# EAGLE library part S13PIN (library jst_eh)
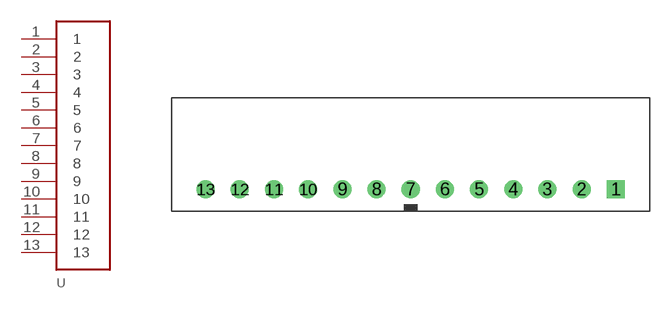
[diagram p17: symbol with the pads of S13B-EH; footprint S13B-EH]

Designator prefix -

## S13PIN  [S13B-EH]
1  1
2  2
3  3
4  4
5  5
6  6
7  7
8  8
9  9
10  10
11  11
12  12
13  13

## Footprint S13B-EH (pad centres in mm)
drill 0.813 square: 1 15,0
drill 0.813: 2 12.5,0; 3 10,0; 4 7.5,0; 5 5,0; 6 2.5,0; 7 0,0; 8 -2.5,0; 9 -5,0; 10 -7.5,0; 11 -10,0; 12 -12.5,0; 13 -15,0